# EAGLE library part LTC4425 (library Ava)
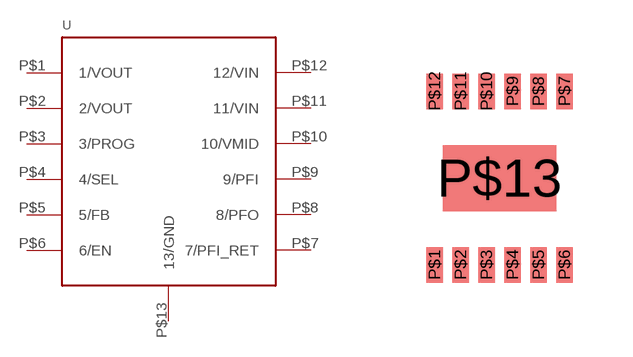
[diagram p53: symbol with the pads of LTC_DWG_05-08-1666_REV_B; footprint LTC_DWG_05-08-1666_REV_B]

Designator prefix -

## LTC4425MSOP  [LTC_DWG_05-08-1666_REV_B]
P$1  1/VOUT
P$2  2/VOUT
P$3  3/PROG
P$4  4/SEL
P$5  5/FB
P$6  6/EN
P$7  7/PFI_RET
P$8  8/PFO
P$9  9/PFI
P$10  10/VMID
P$11  11/VIN
P$12  12/VIN
P$13  13/GND

## Footprint LTC_DWG_05-08-1666_REV_B (pad centres in mm)
smd 0.42 x 0.889: P$1 -1.625,-2.171; P$2 -0.975,-2.171; P$3 -0.325,-2.171; P$4 0.325,-2.171; P$5 0.975,-2.171; P$6 1.625,-2.171; P$7 1.625,2.171; P$8 0.975,2.171; P$9 0.325,2.171; P$10 -0.325,2.171; P$11 -0.975,2.171; P$12 -1.625,2.171
smd 2.845 x 1.651: P$13 0,0